# Altium footprint library CC2650RC_4MOD1106_rev1_6.PcbLib: 33 footprints (part 3 of 3)
Each footprint in its own frame and in the unit in brackets; x right, y up, seen from the top. Pads: shape width x height; smd on the part's side, far side on the other; paste and mask are expansions set on the pad; w line width, h text height; cw(c..) or ccw(c..) is an arc to the next point about the centre after c.
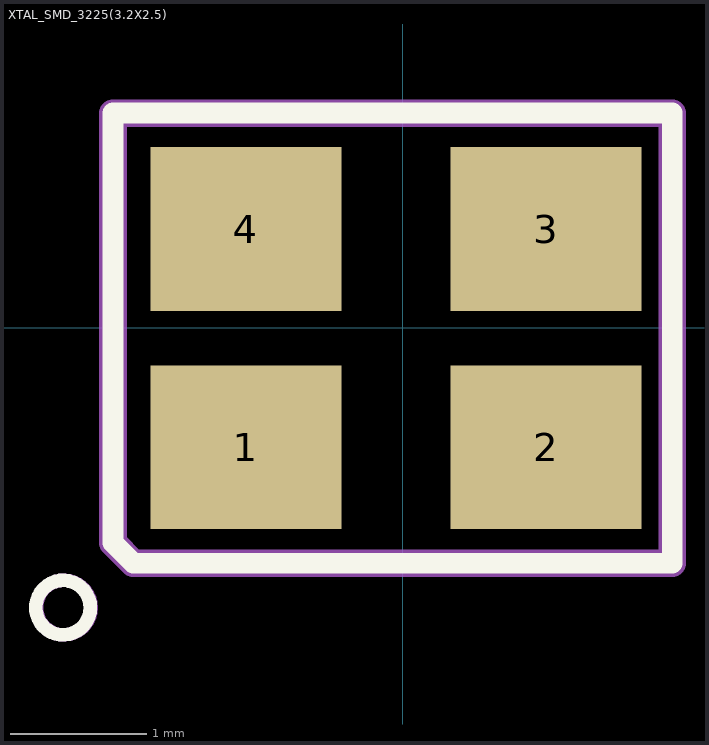
[diagram p2: the footprint, top view; thin cyan lines are the x and y axes]

## XTAL_SMD_3225(3.2X2.5) [mm] "XTAL SMD CASE 3225"
height 1
pads (4):
  rect 1.4x1.2 smd: 1(-1.15,-0.875) 2(1.05,-0.875) 3(1.05,0.725) 4(-1.15,0.725)
Top Overlay:
  circle w0.1: c-2.49,-2.05 r0.2
  lines w0.152: -2.125,-1.575 -2.125,1.575 1.975,1.575 1.975,-1.725 -1.975,-1.725 -2.125,-1.575
Bottom Overlay:
Mechanical 16:
  circle w0.1: c-2.485,-2.05 r0.2
  lines w0.203: -2.125,-1.575 -1.975,-1.725 1.975,-1.725 1.975,1.575 -2.125,1.575 -2.125,-1.575
Mechanical 27:
  text ".Designator" at -1.5,-0.9 h0.9
3D body "User Library-GeyerElectronics_KX7_3225.step": height 0.81, standoff 0, extent -1.682,-1.35 1.532,1.15